# EAGLE library part TL2285 (library L71_devices)
E-Switch TL2285 (PCB switch)
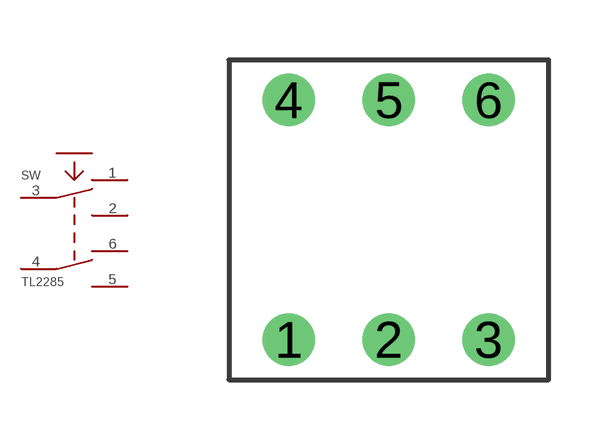
[diagram p0: symbol with the pads of TL2285_PCB; footprint TL2285_PCB]

Designator prefix SW

## TL2285  [TL2285_PCB]
1  P1
2  P2
3  P3
4  P4
5  P5
6  P6

## Footprint TL2285_PCB (pad centres in mm)
E-Switch TL2285 PCB switches
drill 0.8: 1 -2.5,-3; 2 0,-3; 3 2.5,-3; 4 -2.5,3; 5 0,3; 6 2.5,3